# Altium schematic symbol library WR-PHD_Socket Header_2.54mm.SchLib: 187 symbols (part 4 of 4)
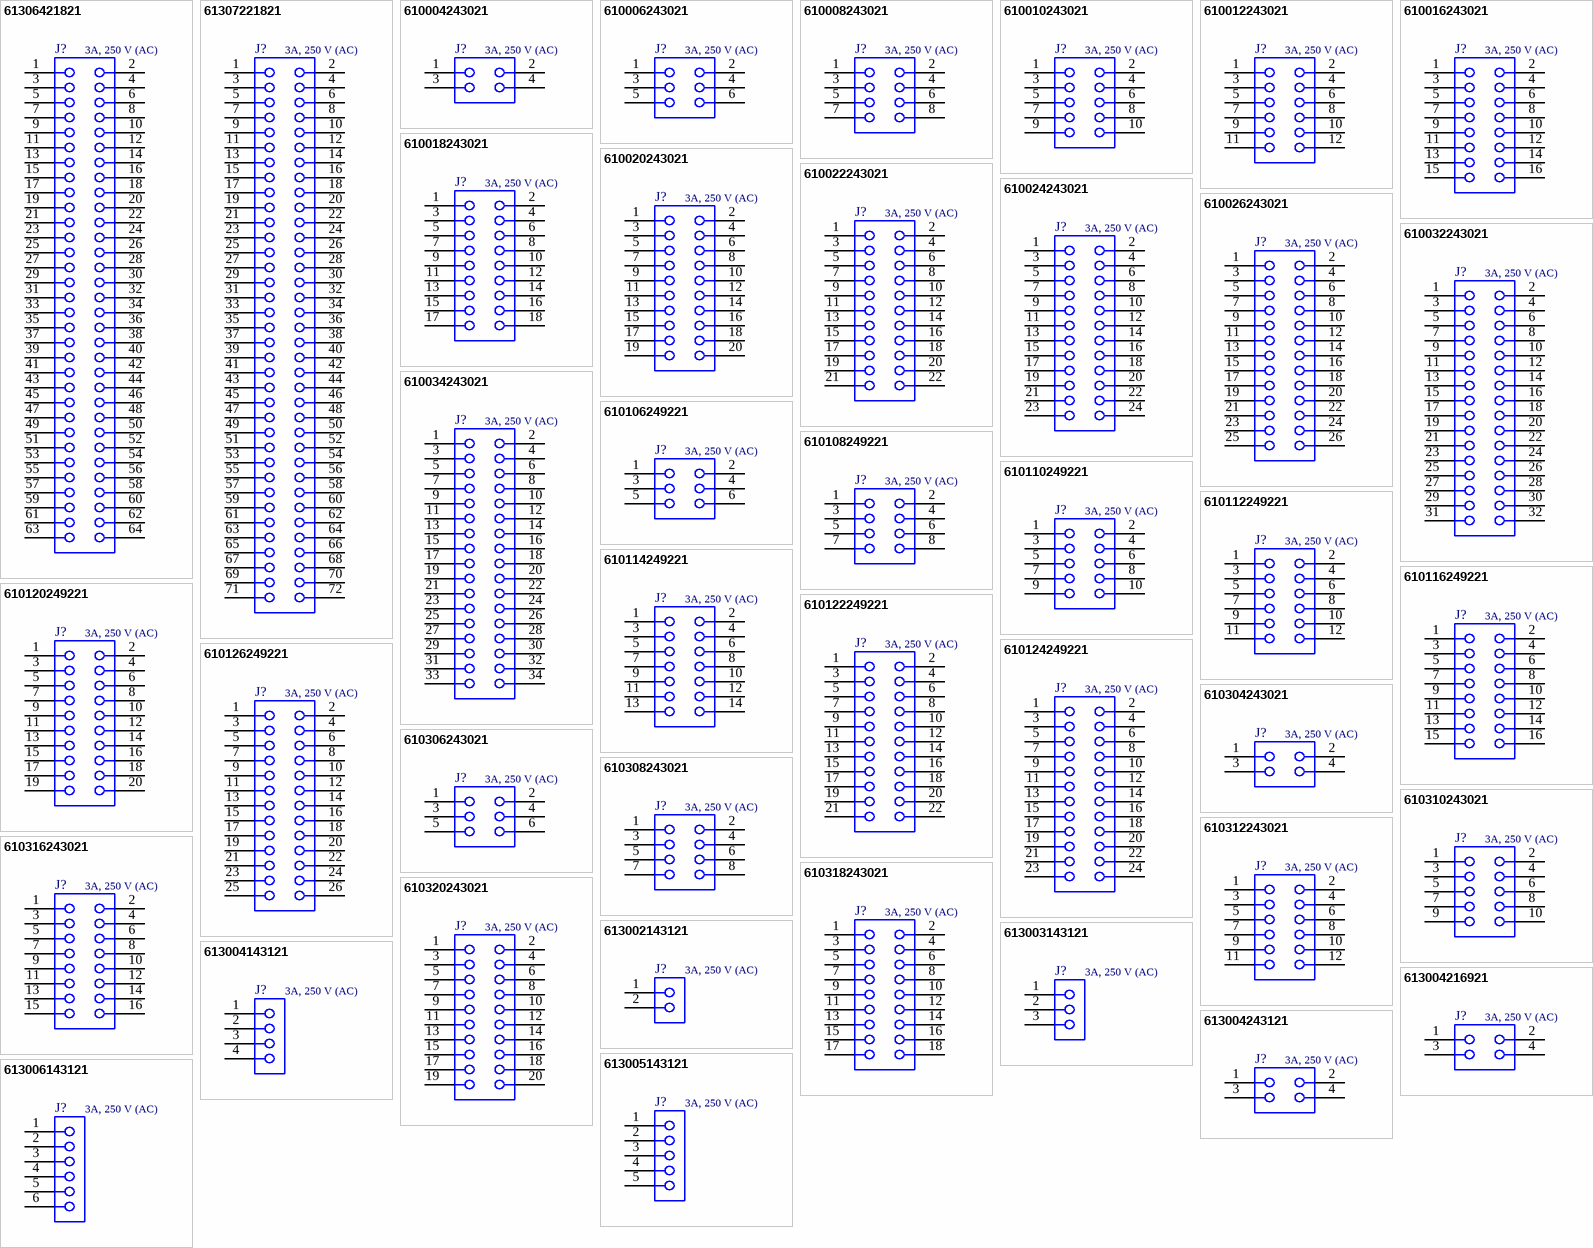
[diagram p8: symbols 61306421821 to 613006143121]

## 613006143121
designator J?, comment 3A, 250 V (AC)
WR-PHD Socket Header, THT, pitch 2.54mm, Single Row, Angled, 6p; Manufacturer Part Number: 613006143121; Manufacturer: Wurth Elektronik; Pin Number: 6; Working Voltage: 250VAC; Withstanding Voltage: 500VAC; Contact Resistance: 20mOhm; ComponentLink1Description: Datasheet; ComponentLink1URL: https://www.we-online.com/catalog/datasheet/613006143121.pdf; Pitch: 2.54mm; Packaging: Tray; Gender: Socket Header; Rated Current: 3A; Row Number: Single; Orientation: Angled; Supplier 1 URL: https://www.mouser.vn/ProductDetail/Wurth-Elektronik/613006143121?qs=iLbezkQI%252BsjEAFO9LmSBxA%3D%3D; Supplier 2 URL: N/A; Supplier 3 URL: https://www.thegioiic.com/hang-rao-cai-don-2-54mm-6-chan-1-hang-chan-cong-xuyen-lo; Mount: THT; Operating Temperature Max: + 85 C; Operating Temperature Min: - 25 C; Supplier 1: Mouser; Supplier 1 Part Number: 710-613006143121; Supplier 2: Digi-Key; Supplier 2 Part Number: N/A; Supplier 3: thegioiic; Supplier 3 Part Number: N/A; Value: 3A, 250 V (AC); LCSC Part #: N/A
footprint 613006143121
pins: 1, 2, 3, 4, 5, 6

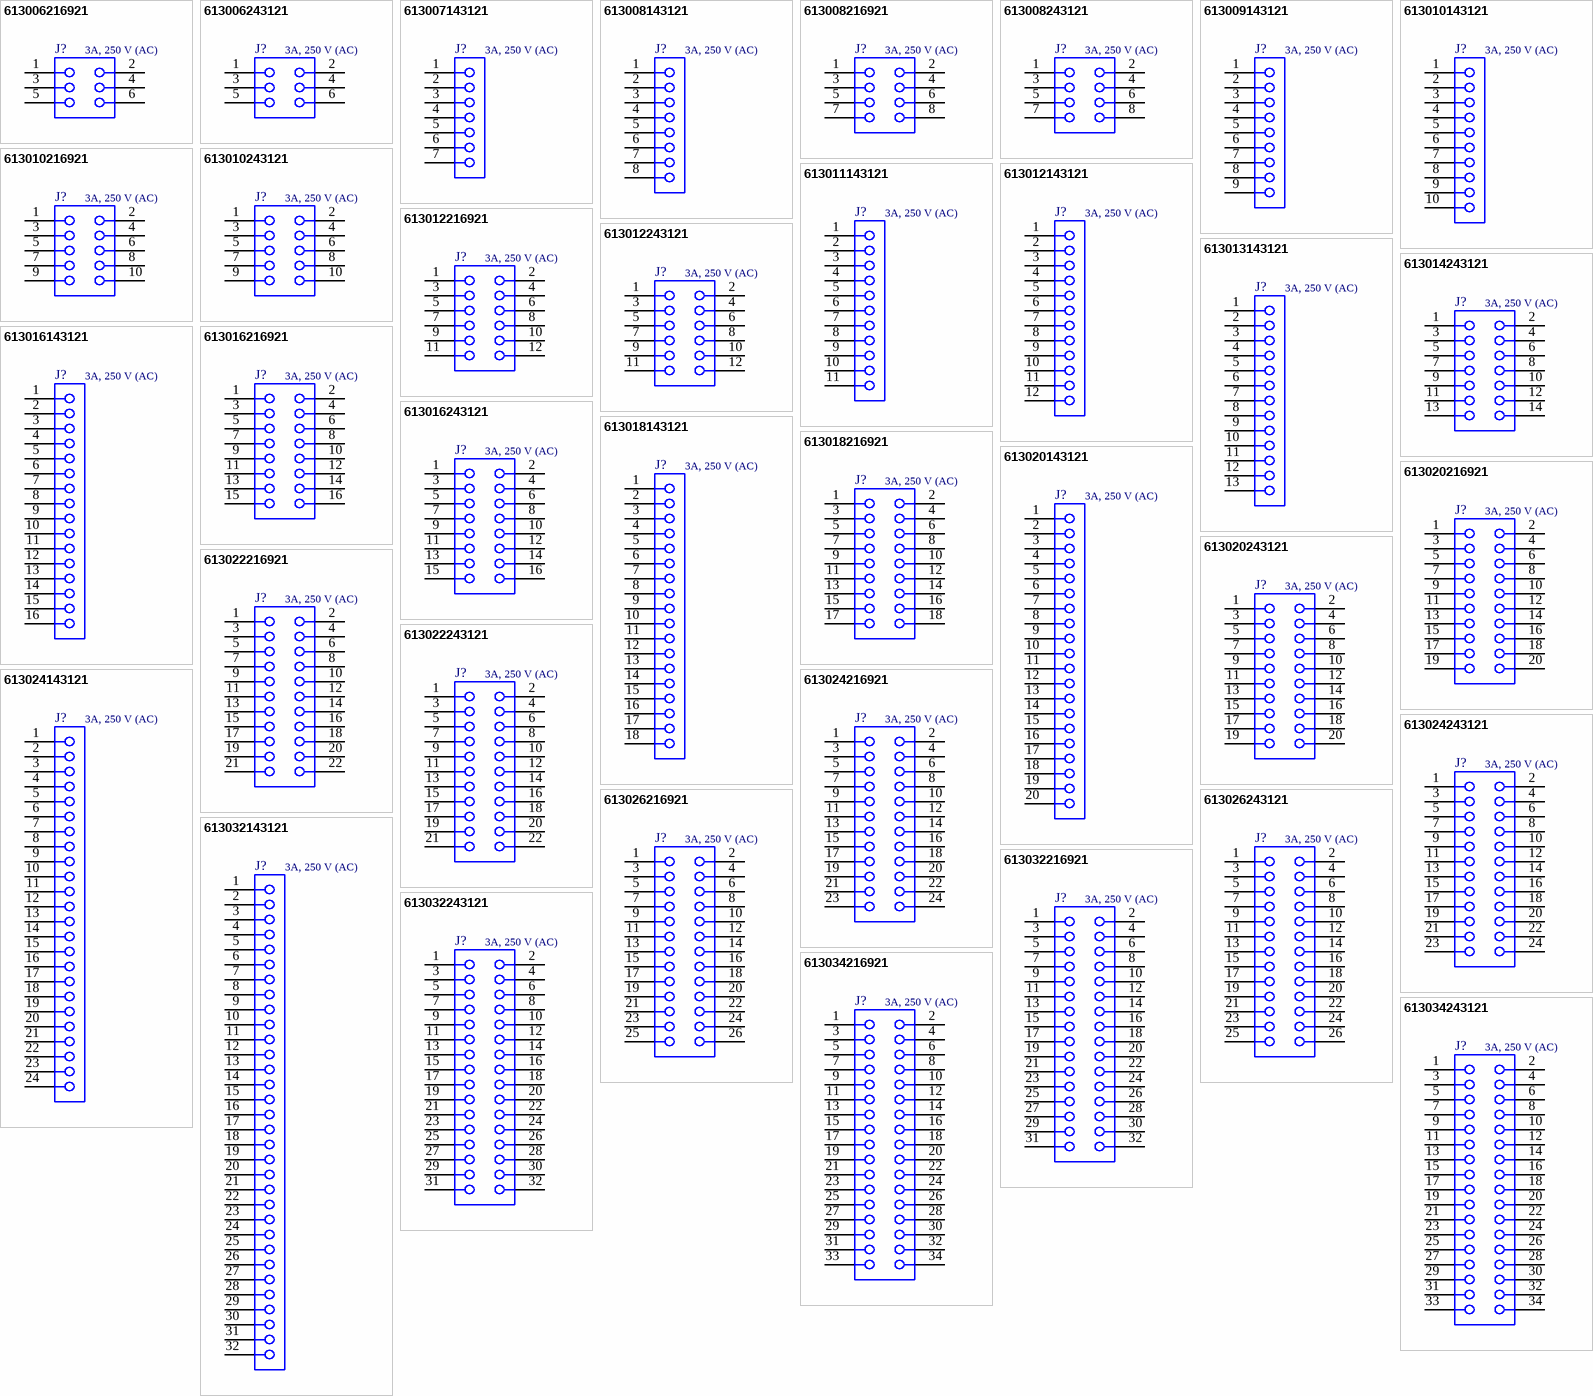
[diagram p4: symbols 613006216921 to 613034243121]

## 613006216921
designator J?, comment 3A, 250 V (AC)
WR-PHD Socket Header, THT, pitch 2.54mm, Dual Row, Vertical, 6p; Manufacturer Part Number: 613006216921; Manufacturer: Wurth Elektronik; Pin Number: 6; Working Voltage: 250VAC; Withstanding Voltage: 500VAC; Contact Resistance: 20mOhm; ComponentLink1Description: Datasheet; ComponentLink1URL: https://www.we-online.com/catalog/datasheet/613006216921.pdf; Pitch: 2.54mm; Packaging: Tube; Gender: Socket Header; Rated Current: 3A; Row Number: Dual; Orientation: Vertical; Supplier 1 URL: N/A; Supplier 2 URL: N/A; Supplier 3 URL: N/A; Mount: THT; Operating Temperature Max: + 85 C; Operating Temperature Min: - 25 C; Supplier 1: Mouser; Supplier 1 Part Number: N/A; Supplier 2: Digi-Key; Supplier 2 Part Number: N/A; Supplier 3: thegioiic; Supplier 3 Part Number: N/A; Value: 3A, 250 V (AC); LCSC Part #: N/A
footprint 613006216921
pins: 1, 2, 3, 4, 5, 6

## 613006243121
designator J?, comment 3A, 250 V (AC)
WR-PHD Socket Header, THT, pitch 2.54mm, Dual Row, Angled, 6p; Manufacturer Part Number: 613006243121; Manufacturer: Wurth Elektronik; Pin Number: 6; Working Voltage: 250VAC; Withstanding Voltage: 500VAC; Contact Resistance: 20mOhm; ComponentLink1Description: Datasheet; ComponentLink1URL: https://www.we-online.com/catalog/datasheet/613006243121.pdf; Pitch: 2.54mm; Packaging: Tray; Gender: Socket Header; Rated Current: 3A; Row Number: Dual; Orientation: Angled; Supplier 1 URL: N/A; Supplier 2 URL: N/A; Supplier 3 URL: https://www.thegioiic.com/hang-rao-cai-doi-2-54mm-6-chan-2-hang-chan-cong-xuyen-lo; Mount: THT; Operating Temperature Max: + 85 C; Operating Temperature Min: - 25 C; Supplier 1: Mouser; Supplier 1 Part Number: N/A; Supplier 2: Digi-Key; Supplier 2 Part Number: N/A; Supplier 3: thegioiic; Supplier 3 Part Number: N/A; Value: 3A, 250 V (AC); LCSC Part #: N/A
footprint 613006243121
pins: 1, 2, 3, 4, 5, 6

## 613007143121
designator J?, comment 3A, 250 V (AC)
WR-PHD Socket Header, THT, pitch 2.54mm, Single Row, Angled, 7p; Manufacturer Part Number: 613007143121; Manufacturer: Wurth Elektronik; Pin Number: 7; Working Voltage: 250VAC; Withstanding Voltage: 500VAC; Contact Resistance: 20mOhm; ComponentLink1Description: Datasheet; ComponentLink1URL: https://www.we-online.com/catalog/datasheet/613007143121.pdf; Pitch: 2.54mm; Packaging: Tray; Gender: Socket Header; Rated Current: 3A; Row Number: Single; Orientation: Angled; Supplier 1 URL: N/A; Supplier 2 URL: N/A; Supplier 3 URL: https://www.thegioiic.com/hang-rao-cai-don-2-54mm-7-chan-1-hang-chan-cong-xuyen-lo; Mount: THT; Operating Temperature Max: + 85 C; Operating Temperature Min: - 25 C; Supplier 1: Mouser; Supplier 1 Part Number: N/A; Supplier 2: Digi-Key; Supplier 2 Part Number: N/A; Supplier 3: thegioiic; Supplier 3 Part Number: N/A; Value: 3A, 250 V (AC); LCSC Part #: N/A
footprint 613007143121
pins: 1, 2, 3, 4, 5, 6, 7

## 613008143121
designator J?, comment 3A, 250 V (AC)
WR-PHD Socket Header, THT, pitch 2.54mm, Single Row, Angled, 8p; Manufacturer Part Number: 613008143121; Manufacturer: Wurth Elektronik; Pin Number: 8; Working Voltage: 250VAC; Withstanding Voltage: 500VAC; Contact Resistance: 20mOhm; ComponentLink1Description: Datasheet; ComponentLink1URL: https://www.we-online.com/catalog/datasheet/613008143121.pdf; Pitch: 2.54mm; Packaging: Tray; Gender: Socket Header; Rated Current: 3A; Row Number: Single; Orientation: Angled; Supplier 1 URL: N/A; Supplier 2 URL: N/A; Supplier 3 URL: https://www.thegioiic.com/hang-rao-cai-don-2-54mm-8-chan-1-hang-chan-cong-xuyen-lo; Mount: THT; Operating Temperature Max: + 85 C; Operating Temperature Min: - 25 C; Supplier 1: Mouser; Supplier 1 Part Number: N/A; Supplier 2: Digi-Key; Supplier 2 Part Number: N/A; Supplier 3: thegioiic; Supplier 3 Part Number: N/A; Value: 3A, 250 V (AC); LCSC Part #: N/A
footprint 613008143121
pins: 1, 2, 3, 4, 5, 6, 7, 8

## 613008216921
designator J?, comment 3A, 250 V (AC)
WR-PHD Socket Header, THT, pitch 2.54mm, Dual Row, Vertical, 8p; Manufacturer Part Number: 613008216921; Manufacturer: Wurth Elektronik; Pin Number: 8; Working Voltage: 250VAC; Withstanding Voltage: 500VAC; Contact Resistance: 20mOhm; ComponentLink1Description: Datasheet; ComponentLink1URL: https://www.we-online.com/catalog/datasheet/613008216921.pdf; Pitch: 2.54mm; Packaging: Tube; Gender: Socket Header; Rated Current: 3A; Row Number: Dual; Orientation: Vertical; Supplier 1 URL: N/A; Supplier 2 URL: N/A; Supplier 3 URL: N/A; Mount: THT; Operating Temperature Max: + 85 C; Operating Temperature Min: - 25 C; Supplier 1: Mouser; Supplier 1 Part Number: N/A; Supplier 2: Digi-Key; Supplier 2 Part Number: N/A; Supplier 3: thegioiic; Supplier 3 Part Number: N/A; Value: 3A, 250 V (AC); LCSC Part #: N/A
footprint 613008216921
pins: 1, 2, 3, 4, 5, 6, 7, 8

## 613008243121
designator J?, comment 3A, 250 V (AC)
WR-PHD Socket Header, THT, pitch 2.54mm, Dual Row, Angled, 8p; Manufacturer Part Number: 613008243121; Manufacturer: Wurth Elektronik; Pin Number: 8; Working Voltage: 250VAC; Withstanding Voltage: 500VAC; Contact Resistance: 20mOhm; ComponentLink1Description: Datasheet; ComponentLink1URL: https://www.we-online.com/catalog/datasheet/613008243121.pdf; Pitch: 2.54mm; Packaging: Tray; Gender: Socket Header; Rated Current: 3A; Row Number: Dual; Orientation: Angled; Supplier 1 URL: https://www.mouser.vn/ProductDetail/Wurth-Elektronik/613008243121?qs=4ASt3YYao0X7Zn9DogtYNQ%3D%3D; Supplier 2 URL: N/A; Supplier 3 URL: https://www.thegioiic.com/hang-rao-cai-doi-2-54mm-8-chan-2-hang-chan-cong-xuyen-lo; Mount: THT; Operating Temperature Max: + 85 C; Operating Temperature Min: - 25 C; Supplier 1: Mouser; Supplier 1 Part Number: 710-613008243121; Supplier 2: Digi-Key; Supplier 2 Part Number: N/A; Supplier 3: thegioiic; Supplier 3 Part Number: N/A; Value: 3A, 250 V (AC); LCSC Part #: N/A
footprint 613008243121
pins: 1, 2, 3, 4, 5, 6, 7, 8

## 613009143121
designator J?, comment 3A, 250 V (AC)
WR-PHD Socket Header, THT, pitch 2.54mm, Single Row, Angled, 9p; Manufacturer Part Number: 613009143121; Manufacturer: Wurth Elektronik; Pin Number: 9; Working Voltage: 250VAC; Withstanding Voltage: 500VAC; Contact Resistance: 20mOhm; ComponentLink1Description: Datasheet; ComponentLink1URL: https://www.we-online.com/catalog/datasheet/613009143121.pdf; Pitch: 2.54mm; Packaging: Tray; Gender: Socket Header; Rated Current: 3A; Row Number: Single; Orientation: Angled; Supplier 1 URL: N/A; Supplier 2 URL: N/A; Supplier 3 URL: https://www.thegioiic.com/hang-rao-cai-don-2-54mm-9-chan-1-hang-chan-cong-xuyen-lo; Mount: THT; Operating Temperature Max: + 85 C; Operating Temperature Min: - 25 C; Supplier 1: Mouser; Supplier 1 Part Number: N/A; Supplier 2: Digi-Key; Supplier 2 Part Number: N/A; Supplier 3: thegioiic; Supplier 3 Part Number: N/A; Value: 3A, 250 V (AC); LCSC Part #: N/A
footprint 613009143121
pins: 1, 2, 3, 4, 5, 6, 7, 8, 9

## 613010143121
designator J?, comment 3A, 250 V (AC)
WR-PHD Socket Header, THT, pitch 2.54mm, Single Row, Angled, 10p; Manufacturer Part Number: 613010143121; Manufacturer: Wurth Elektronik; Pin Number: 10; Working Voltage: 250VAC; Withstanding Voltage: 500VAC; Contact Resistance: 20mOhm; ComponentLink1Description: Datasheet; ComponentLink1URL: https://www.we-online.com/catalog/datasheet/613010143121.pdf; Pitch: 2.54mm; Packaging: Tray; Gender: Socket Header; Rated Current: 3A; Row Number: Single; Orientation: Angled; Supplier 1 URL: https://www.mouser.vn/ProductDetail/Wurth-Elektronik/613010143121?qs=ZtY9WdtwX57y7MI3S9roUA%3D%3D; Supplier 2 URL: N/A; Supplier 3 URL: https://www.thegioiic.com/hang-rao-cai-don-2-54mm-10-chan-1-hang-chan-cong-xuyen-lo; Mount: THT; Operating Temperature Max: + 85 C; Operating Temperature Min: - 25 C; Supplier 1: Mouser; Supplier 1 Part Number: 710-613010143121; Supplier 2: Digi-Key; Supplier 2 Part Number: N/A; Supplier 3: thegioiic; Supplier 3 Part Number: N/A; Value: 3A, 250 V (AC); LCSC Part #: N/A
footprint 613010143121
pins: 1, 2, 3, 4, 5, 6, 7, 8, 9, 10

## 613010216921
designator J?, comment 3A, 250 V (AC)
WR-PHD Socket Header, THT, pitch 2.54mm, Dual Row, Vertical, 10p; Manufacturer Part Number: 613010216921; Manufacturer: Wurth Elektronik; Pin Number: 10; Working Voltage: 250VAC; Withstanding Voltage: 500VAC; Contact Resistance: 20mOhm; ComponentLink1Description: Datasheet; ComponentLink1URL: https://www.we-online.com/catalog/datasheet/613010216921.pdf; Pitch: 2.54mm; Packaging: Tube; Gender: Socket Header; Rated Current: 3A; Row Number: Dual; Orientation: Vertical; Supplier 1 URL: N/A; Supplier 2 URL: N/A; Supplier 3 URL: N/A; Mount: THT; Operating Temperature Max: + 85 C; Operating Temperature Min: - 25 C; Supplier 1: Mouser; Supplier 1 Part Number: N/A; Supplier 2: Digi-Key; Supplier 2 Part Number: N/A; Supplier 3: thegioiic; Supplier 3 Part Number: N/A; Value: 3A, 250 V (AC); LCSC Part #: N/A
footprint 613010216921
pins: 1, 2, 3, 4, 5, 6, 7, 8, 9, 10

## 613010243121
designator J?, comment 3A, 250 V (AC)
WR-PHD Socket Header, THT, pitch 2.54mm, Dual Row, Angled, 10p; Manufacturer Part Number: 613010243121; Manufacturer: Wurth Elektronik; Pin Number: 10; Working Voltage: 250VAC; Withstanding Voltage: 500VAC; Contact Resistance: 20mOhm; ComponentLink1Description: Datasheet; ComponentLink1URL: https://www.we-online.com/catalog/datasheet/613010243121.pdf; Pitch: 2.54mm; Packaging: Tray; Gender: Socket Header; Rated Current: 3A; Row Number: Dual; Orientation: Angled; Supplier 1 URL: https://www.mouser.vn/ProductDetail/Wurth-Elektronik/613010243121?qs=ZtY9WdtwX54mDpZwGjr8IA%3D%3D; Supplier 2 URL: N/A; Supplier 3 URL: https://www.thegioiic.com/hang-rao-cai-doi-2-54mm-10-chan-2-hang-chan-cong-xuyen-lo; Mount: THT; Operating Temperature Max: + 85 C; Operating Temperature Min: - 25 C; Supplier 1: Mouser; Supplier 1 Part Number: 710-613010243121; Supplier 2: Digi-Key; Supplier 2 Part Number: N/A; Supplier 3: thegioiic; Supplier 3 Part Number: N/A; Value: 3A, 250 V (AC); LCSC Part #: N/A
footprint 613010243121
pins: 1, 2, 3, 4, 5, 6, 7, 8, 9, 10

## 613011143121
designator J?, comment 3A, 250 V (AC)
WR-PHD Socket Header, THT, pitch 2.54mm, Single Row, Angled, 11p; Manufacturer Part Number: 613011143121; Manufacturer: Wurth Elektronik; Pin Number: 11; Working Voltage: 250VAC; Withstanding Voltage: 500VAC; Contact Resistance: 20mOhm; ComponentLink1Description: Datasheet; ComponentLink1URL: https://www.we-online.com/catalog/datasheet/613011143121.pdf; Pitch: 2.54mm; Packaging: Tray; Gender: Socket Header; Rated Current: 3A; Row Number: Single; Orientation: Angled; Supplier 1 URL: N/A; Supplier 2 URL: N/A; Supplier 3 URL: N/A; Mount: THT; Operating Temperature Max: + 85 C; Operating Temperature Min: - 25 C; Supplier 1: Mouser; Supplier 1 Part Number: N/A; Supplier 2: Digi-Key; Supplier 2 Part Number: N/A; Supplier 3: thegioiic; Supplier 3 Part Number: N/A; Value: 3A, 250 V (AC); LCSC Part #: N/A
footprint 613011143121
pins: 1, 2, 3, 4, 5, 6, 7, 8, 9, 10, 11

## 613012143121
designator J?, comment 3A, 250 V (AC)
WR-PHD Socket Header, THT, pitch 2.54mm, Single Row, Angled, 12p; Manufacturer Part Number: 613012143121; Manufacturer: Wurth Elektronik; Pin Number: 12; Working Voltage: 250VAC; Withstanding Voltage: 500VAC; Contact Resistance: 20mOhm; ComponentLink1Description: Datasheet; ComponentLink1URL: https://www.we-online.com/catalog/datasheet/613012143121.pdf; Pitch: 2.54mm; Packaging: Tray; Gender: Socket Header; Rated Current: 3A; Row Number: Single; Orientation: Angled; Supplier 1 URL: N/A; Supplier 2 URL: N/A; Supplier 3 URL: https://www.thegioiic.com/hang-rao-cai-don-2-54mm-12-chan-1-hang-chan-cong-xuyen-lo; Mount: THT; Operating Temperature Max: + 85 C; Operating Temperature Min: - 25 C; Supplier 1: Mouser; Supplier 1 Part Number: N/A; Supplier 2: Digi-Key; Supplier 2 Part Number: N/A; Supplier 3: thegioiic; Supplier 3 Part Number: N/A; Value: 3A, 250 V (AC); LCSC Part #: N/A
footprint 613012143121
pins: 1, 2, 3, 4, 5, 6, 7, 8, 9, 10, 11, 12

## 613012216921
designator J?, comment 3A, 250 V (AC)
WR-PHD Socket Header, THT, pitch 2.54mm, Dual Row, Vertical, 12p; Manufacturer Part Number: 613012216921; Manufacturer: Wurth Elektronik; Pin Number: 12; Working Voltage: 250VAC; Withstanding Voltage: 500VAC; Contact Resistance: 20mOhm; ComponentLink1Description: Datasheet; ComponentLink1URL: https://www.we-online.com/catalog/datasheet/613012216921.pdf; Pitch: 2.54mm; Packaging: Tube; Gender: Socket Header; Rated Current: 3A; Row Number: Dual; Orientation: Vertical; Supplier 1 URL: N/A; Supplier 2 URL: N/A; Supplier 3 URL: N/A; Mount: THT; Operating Temperature Max: + 85 C; Operating Temperature Min: - 25 C; Supplier 1: Mouser; Supplier 1 Part Number: N/A; Supplier 2: Digi-Key; Supplier 2 Part Number: N/A; Supplier 3: thegioiic; Supplier 3 Part Number: N/A; Value: 3A, 250 V (AC); LCSC Part #: N/A
footprint 613012216921
pins: 1, 2, 3, 4, 5, 6, 7, 8, 9, 10, 11, 12

## 613012243121
designator J?, comment 3A, 250 V (AC)
WR-PHD Socket Header, THT, pitch 2.54mm, Dual Row, Angled, 12p; Manufacturer Part Number: 613012243121; Manufacturer: Wurth Elektronik; Pin Number: 12; Working Voltage: 250VAC; Withstanding Voltage: 500VAC; Contact Resistance: 20mOhm; ComponentLink1Description: Datasheet; ComponentLink1URL: https://www.we-online.com/catalog/datasheet/613012243121.pdf; Pitch: 2.54mm; Packaging: Tray; Gender: Socket Header; Rated Current: 3A; Row Number: Dual; Orientation: Angled; Supplier 1 URL: https://www.mouser.vn/ProductDetail/Wurth-Elektronik/613010243121?qs=ZtY9WdtwX54mDpZwGjr8IA%3D%3D; Supplier 2 URL: N/A; Supplier 3 URL: https://www.thegioiic.com/hang-rao-cai-doi-2-54mm-12-chan-2-hang-chan-cong-xuyen-lo; Mount: THT; Operating Temperature Max: + 85 C; Operating Temperature Min: - 25 C; Supplier 1: Mouser; Supplier 1 Part Number: 710-613010243121; Supplier 2: Digi-Key; Supplier 2 Part Number: N/A; Supplier 3: thegioiic; Supplier 3 Part Number: N/A; Value: 3A, 250 V (AC); LCSC Part #: N/A
footprint 613012243121
pins: 1, 2, 3, 4, 5, 6, 7, 8, 9, 10, 11, 12

## 613013143121
designator J?, comment 3A, 250 V (AC)
WR-PHD Socket Header, THT, pitch 2.54mm, Single Row, Angled, 13p; Manufacturer Part Number: 613013143121; Manufacturer: Wurth Elektronik; Pin Number: 13; Working Voltage: 250VAC; Withstanding Voltage: 500VAC; Contact Resistance: 20mOhm; ComponentLink1Description: Datasheet; ComponentLink1URL: https://www.we-online.com/catalog/datasheet/613013143121.pdf; Pitch: 2.54mm; Packaging: Tray; Gender: Socket Header; Rated Current: 3A; Row Number: Single; Orientation: Angled; Supplier 1 URL: N/A; Supplier 2 URL: N/A; Supplier 3 URL: N/A; Mount: THT; Operating Temperature Max: + 85 C; Operating Temperature Min: - 25 C; Supplier 1: Mouser; Supplier 1 Part Number: N/A; Supplier 2: Digi-Key; Supplier 2 Part Number: N/A; Supplier 3: thegioiic; Supplier 3 Part Number: N/A; Value: 3A, 250 V (AC); LCSC Part #: N/A
footprint 613013143121
pins: 1, 2, 3, 4, 5, 6, 7, 8, 9, 10, 11, 12, 13

## 613014243121
designator J?, comment 3A, 250 V (AC)
WR-PHD Socket Header, THT, pitch 2.54mm, Dual Row, Angled, 14p; Manufacturer Part Number: 613014243121; Manufacturer: Wurth Elektronik; Pin Number: 14; Working Voltage: 250VAC; Withstanding Voltage: 500VAC; Contact Resistance: 20mOhm; ComponentLink1Description: Datasheet; ComponentLink1URL: https://www.we-online.com/catalog/datasheet/613014243121.pdf; Pitch: 2.54mm; Packaging: Tray; Gender: Socket Header; Rated Current: 3A; Row Number: Dual; Orientation: Angled; Supplier 1 URL: N/A; Supplier 2 URL: N/A; Supplier 3 URL: https://www.thegioiic.com/hang-rao-cai-doi-2-54mm-14-chan-2-hang-chan-cong-xuyen-lo; Mount: THT; Operating Temperature Max: + 85 C; Operating Temperature Min: - 25 C; Supplier 1: Mouser; Supplier 1 Part Number: N/A; Supplier 2: Digi-Key; Supplier 2 Part Number: N/A; Supplier 3: thegioiic; Supplier 3 Part Number: N/A; Value: 3A, 250 V (AC); LCSC Part #: N/A
footprint 613014243121
pins: 1, 2, 3, 4, 5, 6, 7, 8, 9, 10, 11, 12, 13, 14

## 613016143121
designator J?, comment 3A, 250 V (AC)
WR-PHD Socket Header, THT, pitch 2.54mm, Single Row, Angled, 16p; Manufacturer Part Number: 613016143121; Manufacturer: Wurth Elektronik; Pin Number: 16; Working Voltage: 250VAC; Withstanding Voltage: 500VAC; Contact Resistance: 20mOhm; ComponentLink1Description: Datasheet; ComponentLink1URL: https://www.we-online.com/catalog/datasheet/613016143121.pdf; Pitch: 2.54mm; Packaging: Tray; Gender: Socket Header; Rated Current: 3A; Row Number: Single; Orientation: Angled; Supplier 1 URL: N/A; Supplier 2 URL: N/A; Supplier 3 URL: N/A; Mount: THT; Operating Temperature Max: + 85 C; Operating Temperature Min: - 25 C; Supplier 1: Mouser; Supplier 1 Part Number: N/A; Supplier 2: Digi-Key; Supplier 2 Part Number: N/A; Supplier 3: thegioiic; Supplier 3 Part Number: N/A; Value: 3A, 250 V (AC); LCSC Part #: N/A
footprint 613016143121
pins: 1, 2, 3, 4, 5, 6, 7, 8, 9, 10, 11, 12, 13, 14, 15, 16

## 613016216921
designator J?, comment 3A, 250 V (AC)
WR-PHD Socket Header, THT, pitch 2.54mm, Dual Row, Vertical, 16p; Manufacturer Part Number: 613016216921; Manufacturer: Wurth Elektronik; Pin Number: 16; Working Voltage: 250VAC; Withstanding Voltage: 500VAC; Contact Resistance: 20mOhm; ComponentLink1Description: Datasheet; ComponentLink1URL: https://www.we-online.com/catalog/datasheet/613016216921.pdf; Pitch: 2.54mm; Packaging: Tube; Gender: Socket Header; Rated Current: 3A; Row Number: Dual; Orientation: Vertical; Supplier 1 URL: N/A; Supplier 2 URL: N/A; Supplier 3 URL: N/A; Mount: THT; Operating Temperature Max: + 85 C; Operating Temperature Min: - 25 C; Supplier 1: Mouser; Supplier 1 Part Number: N/A; Supplier 2: Digi-Key; Supplier 2 Part Number: N/A; Supplier 3: thegioiic; Supplier 3 Part Number: N/A; Value: 3A, 250 V (AC); LCSC Part #: N/A
footprint 613016216921
pins: 1, 2, 3, 4, 5, 6, 7, 8, 9, 10, 11, 12, 13, 14, 15, 16

## 613016243121
designator J?, comment 3A, 250 V (AC)
WR-PHD Socket Header, THT, pitch 2.54mm, Dual Row, Angled, 16p; Manufacturer Part Number: 613016243121; Manufacturer: Wurth Elektronik; Pin Number: 16; Working Voltage: 250VAC; Withstanding Voltage: 500VAC; Contact Resistance: 20mOhm; ComponentLink1Description: Datasheet; ComponentLink1URL: https://www.we-online.com/catalog/datasheet/613016243121.pdf; Pitch: 2.54mm; Packaging: Tray; Gender: Socket Header; Rated Current: 3A; Row Number: Dual; Orientation: Angled; Supplier 1 URL: N/A; Supplier 2 URL: N/A; Supplier 3 URL: https://www.thegioiic.com/hang-rao-cai-doi-2-54mm-16-chan-2-hang-chan-cong-xuyen-lo; Mount: THT; Operating Temperature Max: + 85 C; Operating Temperature Min: - 25 C; Supplier 1: Mouser; Supplier 1 Part Number: N/A; Supplier 2: Digi-Key; Supplier 2 Part Number: N/A; Supplier 3: thegioiic; Supplier 3 Part Number: N/A; Value: 3A, 250 V (AC); LCSC Part #: N/A
footprint 613016243121
pins: 1, 2, 3, 4, 5, 6, 7, 8, 9, 10, 11, 12, 13, 14, 15, 16

## 613018143121
designator J?, comment 3A, 250 V (AC)
WR-PHD Socket Header, THT, pitch 2.54mm, Single Row, Angled, 18p; Manufacturer Part Number: 613018143121; Manufacturer: Wurth Elektronik; Pin Number: 18; Working Voltage: 250VAC; Withstanding Voltage: 500VAC; Contact Resistance: 20mOhm; ComponentLink1Description: Datasheet; ComponentLink1URL: https://www.we-online.com/catalog/datasheet/613018143121.pdf; Pitch: 2.54mm; Packaging: Tray; Gender: Socket Header; Rated Current: 3A; Row Number: Single; Orientation: Angled; Supplier 1 URL: N/A; Supplier 2 URL: N/A; Supplier 3 URL: N/A; Mount: THT; Operating Temperature Max: + 85 C; Operating Temperature Min: - 25 C; Supplier 1: Mouser; Supplier 1 Part Number: N/A; Supplier 2: Digi-Key; Supplier 2 Part Number: N/A; Supplier 3: thegioiic; Supplier 3 Part Number: N/A; Value: 3A, 250 V (AC); LCSC Part #: N/A
footprint 613018143121
pins: 1, 2, 3, 4, 5, 6, 7, 8, 9, 10, 11, 12, 13, 14, 15, 16, 17, 18

## 613018216921
designator J?, comment 3A, 250 V (AC)
WR-PHD Socket Header, THT, pitch 2.54mm, Dual Row, Vertical, 18p; Manufacturer Part Number: 613018216921; Manufacturer: Wurth Elektronik; Pin Number: 18; Working Voltage: 250VAC; Withstanding Voltage: 500VAC; Contact Resistance: 20mOhm; ComponentLink1Description: Datasheet; ComponentLink1URL: https://www.we-online.com/catalog/datasheet/613018216921.pdf; Pitch: 2.54mm; Packaging: Tube; Gender: Socket Header; Rated Current: 3A; Row Number: Dual; Orientation: Vertical; Supplier 1 URL: N/A; Supplier 2 URL: N/A; Supplier 3 URL: N/A; Mount: THT; Operating Temperature Max: + 85 C; Operating Temperature Min: - 25 C; Supplier 1: Mouser; Supplier 1 Part Number: N/A; Supplier 2: Digi-Key; Supplier 2 Part Number: N/A; Supplier 3: thegioiic; Supplier 3 Part Number: N/A; Value: 3A, 250 V (AC); LCSC Part #: N/A
footprint 613018216921
pins: 1, 2, 3, 4, 5, 6, 7, 8, 9, 10, 11, 12, 13, 14, 15, 16, 17, 18

## 613020143121
designator J?, comment 3A, 250 V (AC)
WR-PHD Socket Header, THT, pitch 2.54mm, Single Row, Angled, 20p; Manufacturer Part Number: 613020143121; Manufacturer: Wurth Elektronik; Pin Number: 20; Working Voltage: 250VAC; Withstanding Voltage: 500VAC; Contact Resistance: 20mOhm; ComponentLink1Description: Datasheet; ComponentLink1URL: https://www.we-online.com/catalog/datasheet/613020143121.pdf; Pitch: 2.54mm; Packaging: Tray; Gender: Socket Header; Rated Current: 3A; Row Number: Single; Orientation: Angled; Supplier 1 URL: N/A; Supplier 2 URL: N/A; Supplier 3 URL: https://www.thegioiic.com/hang-rao-cai-don-2-54mm-20-chan-1-hang-chan-cong-xuyen-lo; Mount: THT; Operating Temperature Max: + 85 C; Operating Temperature Min: - 25 C; Supplier 1: Mouser; Supplier 1 Part Number: N/A; Supplier 2: Digi-Key; Supplier 2 Part Number: N/A; Supplier 3: thegioiic; Supplier 3 Part Number: N/A; Value: 3A, 250 V (AC); LCSC Part #: N/A
footprint 613020143121
pins: 1, 2, 3, 4, 5, 6, 7, 8, 9, 10, 11, 12, 13, 14, 15, 16, 17, 18, 19, 20

## 613020216921
designator J?, comment 3A, 250 V (AC)
WR-PHD Socket Header, THT, pitch 2.54mm, Dual Row, Vertical, 20p; Manufacturer Part Number: 613020216921; Manufacturer: Wurth Elektronik; Pin Number: 20; Working Voltage: 250VAC; Withstanding Voltage: 500VAC; Contact Resistance: 20mOhm; ComponentLink1Description: Datasheet; ComponentLink1URL: https://www.we-online.com/catalog/datasheet/613020216921.pdf; Pitch: 2.54mm; Packaging: Tube; Gender: Socket Header; Rated Current: 3A; Row Number: Dual; Orientation: Vertical; Supplier 1 URL: N/A; Supplier 2 URL: N/A; Supplier 3 URL: N/A; Mount: THT; Operating Temperature Max: + 85 C; Operating Temperature Min: - 25 C; Supplier 1: Mouser; Supplier 1 Part Number: N/A; Supplier 2: Digi-Key; Supplier 2 Part Number: N/A; Supplier 3: thegioiic; Supplier 3 Part Number: N/A; Value: 3A, 250 V (AC); LCSC Part #: N/A
footprint 613020216921
pins: 1, 2, 3, 4, 5, 6, 7, 8, 9, 10, 11, 12, 13, 14, 15, 16, 17, 18, 19, 20

## 613020243121
designator J?, comment 3A, 250 V (AC)
WR-PHD Socket Header, THT, pitch 2.54mm, Dual Row, Angled, 20p; Manufacturer Part Number: 613020243121; Manufacturer: Wurth Elektronik; Pin Number: 20; Working Voltage: 250VAC; Withstanding Voltage: 500VAC; Contact Resistance: 20mOhm; ComponentLink1Description: Datasheet; ComponentLink1URL: https://www.we-online.com/catalog/datasheet/613020243121.pdf; Pitch: 2.54mm; Packaging: Tray; Gender: Socket Header; Rated Current: 3A; Row Number: Dual; Orientation: Angled; Supplier 1 URL: https://www.mouser.vn/ProductDetail/Wurth-Elektronik/613020243121?qs=iLbezkQI%252BsgYJAYDyV6%2Fyw%3D%3D; Supplier 2 URL: N/A; Supplier 3 URL: https://www.thegioiic.com/hang-rao-cai-doi-2-54mm-20-chan-2-hang-chan-cong-xuyen-lo; Mount: THT; Operating Temperature Max: + 85 C; Operating Temperature Min: - 25 C; Supplier 1: Mouser; Supplier 1 Part Number: 710-613020243121; Supplier 2: Digi-Key; Supplier 2 Part Number: N/A; Supplier 3: thegioiic; Supplier 3 Part Number: N/A; Value: 3A, 250 V (AC); LCSC Part #: N/A
footprint 613020243121
pins: 1, 2, 3, 4, 5, 6, 7, 8, 9, 10, 11, 12, 13, 14, 15, 16, 17, 18, 19, 20

## 613022216921
designator J?, comment 3A, 250 V (AC)
WR-PHD Socket Header, THT, pitch 2.54mm, Dual Row, Vertical, 22p; Manufacturer Part Number: 613022216921; Manufacturer: Wurth Elektronik; Pin Number: 22; Working Voltage: 250VAC; Withstanding Voltage: 500VAC; Contact Resistance: 20mOhm; ComponentLink1Description: Datasheet; ComponentLink1URL: https://www.we-online.com/catalog/datasheet/613022216921.pdf; Pitch: 2.54mm; Packaging: Tube; Gender: Socket Header; Rated Current: 3A; Row Number: Dual; Orientation: Vertical; Supplier 1 URL: N/A; Supplier 2 URL: N/A; Supplier 3 URL: N/A; Mount: THT; Operating Temperature Max: + 85 C; Operating Temperature Min: - 25 C; Supplier 1: Mouser; Supplier 1 Part Number: N/A; Supplier 2: Digi-Key; Supplier 2 Part Number: N/A; Supplier 3: thegioiic; Supplier 3 Part Number: N/A; Value: 3A, 250 V (AC); LCSC Part #: N/A
footprint 613022216921
pins: 1, 2, 3, 4, 5, 6, 7, 8, 9, 10, 11, 12, 13, 14, 15, 16, 17, 18, 19, 20, 21, 22

## 613022243121
designator J?, comment 3A, 250 V (AC)
WR-PHD Socket Header, THT, pitch 2.54mm, Dual Row, Angled, 22p; Manufacturer Part Number: 613022243121; Manufacturer: Wurth Elektronik; Pin Number: 22; Working Voltage: 250VAC; Withstanding Voltage: 500VAC; Contact Resistance: 20mOhm; ComponentLink1Description: Datasheet; ComponentLink1URL: https://www.we-online.com/catalog/datasheet/613022243121.pdf; Pitch: 2.54mm; Packaging: Tray; Gender: Socket Header; Rated Current: 3A; Row Number: Dual; Orientation: Angled; Supplier 1 URL: N/A; Supplier 2 URL: N/A; Supplier 3 URL: N/A; Mount: THT; Operating Temperature Max: + 85 C; Operating Temperature Min: - 25 C; Supplier 1: Mouser; Supplier 1 Part Number: N/A; Supplier 2: Digi-Key; Supplier 2 Part Number: N/A; Supplier 3: thegioiic; Supplier 3 Part Number: N/A; Value: 3A, 250 V (AC); LCSC Part #: N/A
footprint 613022243121
pins: 1, 2, 3, 4, 5, 6, 7, 8, 9, 10, 11, 12, 13, 14, 15, 16, 17, 18, 19, 20, 21, 22

## 613024143121
designator J?, comment 3A, 250 V (AC)
WR-PHD Socket Header, THT, pitch 2.54mm, Single Row, Angled, 24p; Manufacturer Part Number: 613024143121; Manufacturer: Wurth Elektronik; Pin Number: 24; Working Voltage: 250VAC; Withstanding Voltage: 500VAC; Contact Resistance: 20mOhm; ComponentLink1Description: Datasheet; ComponentLink1URL: https://www.we-online.com/catalog/datasheet/613024143121.pdf; Pitch: 2.54mm; Packaging: Tray; Gender: Socket Header; Rated Current: 3A; Row Number: Single; Orientation: Angled; Supplier 1 URL: N/A; Supplier 2 URL: N/A; Supplier 3 URL: N/A; Mount: THT; Operating Temperature Max: + 85 C; Operating Temperature Min: - 25 C; Supplier 1: Mouser; Supplier 1 Part Number: N/A; Supplier 2: Digi-Key; Supplier 2 Part Number: N/A; Supplier 3: thegioiic; Supplier 3 Part Number: N/A; Value: 3A, 250 V (AC); LCSC Part #: N/A
footprint 613024143121
pins: 1, 2, 3, 4, 5, 6, 7, 8, 9, 10, 11, 12, 13, 14, 15, 16, 17, 18, 19, 20, 21, 22, 23, 24

## 613024216921
designator J?, comment 3A, 250 V (AC)
WR-PHD Socket Header, THT, pitch 2.54mm, Dual Row, Vertical, 24p; Manufacturer Part Number: 613024216921; Manufacturer: Wurth Elektronik; Pin Number: 24; Working Voltage: 250VAC; Withstanding Voltage: 500VAC; Contact Resistance: 20mOhm; ComponentLink1Description: Datasheet; ComponentLink1URL: https://www.we-online.com/catalog/datasheet/613024216921.pdf; Pitch: 2.54mm; Packaging: Tube; Gender: Socket Header; Rated Current: 3A; Row Number: Dual; Orientation: Vertical; Supplier 1 URL: N/A; Supplier 2 URL: N/A; Supplier 3 URL: N/A; Mount: THT; Operating Temperature Max: + 85 C; Operating Temperature Min: - 25 C; Supplier 1: Mouser; Supplier 1 Part Number: N/A; Supplier 2: Digi-Key; Supplier 2 Part Number: N/A; Supplier 3: thegioiic; Supplier 3 Part Number: N/A; Value: 3A, 250 V (AC); LCSC Part #: N/A
footprint 613024216921
pins: 1, 2, 3, 4, 5, 6, 7, 8, 9, 10, 11, 12, 13, 14, 15, 16, 17, 18, 19, 20, 21, 22, 23, 24

## 613024243121
designator J?, comment 3A, 250 V (AC)
WR-PHD Socket Header, THT, pitch 2.54mm, Dual Row, Angled, 24p; Manufacturer Part Number: 613024243121; Manufacturer: Wurth Elektronik; Pin Number: 24; Working Voltage: 250VAC; Withstanding Voltage: 500VAC; Contact Resistance: 20mOhm; ComponentLink1Description: Datasheet; ComponentLink1URL: https://www.we-online.com/catalog/datasheet/613024243121.pdf; Pitch: 2.54mm; Packaging: Tray; Gender: Socket Header; Rated Current: 3A; Row Number: Dual; Orientation: Angled; Supplier 1 URL: N/A; Supplier 2 URL: N/A; Supplier 3 URL: https://www.thegioiic.com/hang-rao-cai-doi-2-54mm-24-chan-2-hang-chan-cong-xuyen-lo; Mount: THT; Operating Temperature Max: + 85 C; Operating Temperature Min: - 25 C; Supplier 1: Mouser; Supplier 1 Part Number: N/A; Supplier 2: Digi-Key; Supplier 2 Part Number: N/A; Supplier 3: thegioiic; Supplier 3 Part Number: N/A; Value: 3A, 250 V (AC); LCSC Part #: N/A
footprint 613024243121
pins: 1, 2, 3, 4, 5, 6, 7, 8, 9, 10, 11, 12, 13, 14, 15, 16, 17, 18, 19, 20, 21, 22, 23, 24

## 613026216921
designator J?, comment 3A, 250 V (AC)
WR-PHD Socket Header, THT, pitch 2.54mm, Dual Row, Vertical, 26p; Manufacturer Part Number: 613026216921; Manufacturer: Wurth Elektronik; Pin Number: 26; Working Voltage: 250VAC; Withstanding Voltage: 500VAC; Contact Resistance: 20mOhm; ComponentLink1Description: Datasheet; ComponentLink1URL: https://www.we-online.com/catalog/datasheet/613026216921.pdf; Pitch: 2.54mm; Packaging: Tube; Gender: Socket Header; Rated Current: 3A; Row Number: Dual; Orientation: Vertical; Supplier 1 URL: N/A; Supplier 2 URL: N/A; Supplier 3 URL: N/A; Mount: THT; Operating Temperature Max: + 85 C; Operating Temperature Min: - 25 C; Supplier 1: Mouser; Supplier 1 Part Number: N/A; Supplier 2: Digi-Key; Supplier 2 Part Number: N/A; Supplier 3: thegioiic; Supplier 3 Part Number: N/A; Value: 3A, 250 V (AC); LCSC Part #: N/A
footprint 613026216921
pins: 1, 2, 3, 4, 5, 6, 7, 8, 9, 10, 11, 12, 13, 14, 15, 16, 17, 18, 19, 20, 21, 22, 23, 24, 25, 26

## 613026243121
designator J?, comment 3A, 250 V (AC)
WR-PHD Socket Header, THT, pitch 2.54mm, Dual Row, Angled, 26p; Manufacturer Part Number: 613026243121; Manufacturer: Wurth Elektronik; Pin Number: 26; Working Voltage: 250VAC; Withstanding Voltage: 500VAC; Contact Resistance: 20mOhm; ComponentLink1Description: Datasheet; ComponentLink1URL: https://www.we-online.com/catalog/datasheet/613026243121.pdf; Pitch: 2.54mm; Packaging: Tray; Gender: Socket Header; Rated Current: 3A; Row Number: Dual; Orientation: Angled; Supplier 1 URL: N/A; Supplier 2 URL: N/A; Supplier 3 URL: N/A; Mount: THT; Operating Temperature Max: + 85 C; Operating Temperature Min: - 25 C; Supplier 1: Mouser; Supplier 1 Part Number: N/A; Supplier 2: Digi-Key; Supplier 2 Part Number: N/A; Supplier 3: thegioiic; Supplier 3 Part Number: N/A; Value: 3A, 250 V (AC); LCSC Part #: N/A
footprint 613026243121
pins: 1, 2, 3, 4, 5, 6, 7, 8, 9, 10, 11, 12, 13, 14, 15, 16, 17, 18, 19, 20, 21, 22, 23, 24, 25, 26

## 613032143121
designator J?, comment 3A, 250 V (AC)
WR-PHD Socket Header, THT, pitch 2.54mm, Single Row, Angled, 32p; Manufacturer Part Number: 613032143121; Manufacturer: Wurth Elektronik; Pin Number: 32; Working Voltage: 250VAC; Withstanding Voltage: 500VAC; Contact Resistance: 20mOhm; ComponentLink1Description: Datasheet; ComponentLink1URL: https://www.we-online.com/catalog/datasheet/613032143121.pdf; Pitch: 2.54mm; Packaging: Tray; Gender: Socket Header; Rated Current: 3A; Row Number: Single; Orientation: Angled; Supplier 1 URL: https://www.mouser.vn/ProductDetail/Wurth-Elektronik/613032143121?qs=ZtY9WdtwX57Le9WYZVH80Q%3D%3D; Supplier 2 URL: N/A; Supplier 3 URL: N/A; Mount: THT; Operating Temperature Max: + 85 C; Operating Temperature Min: - 25 C; Supplier 1: Mouser; Supplier 1 Part Number: 710-613032143121; Supplier 2: Digi-Key; Supplier 2 Part Number: N/A; Supplier 3: thegioiic; Supplier 3 Part Number: N/A; Value: 3A, 250 V (AC); LCSC Part #: N/A
footprint 613032143121
pins: 1, 2, 3, 4, 5, 6, 7, 8, 9, 10, 11, 12, 13, 14, 15, 16, 17, 18, 19, 20, 21, 22, 23, 24, 25, 26, 27, 28, 29, 30, 31, 32

## 613032216921
designator J?, comment 3A, 250 V (AC)
WR-PHD Socket Header, THT, pitch 2.54mm, Dual Row, Vertical, 32p; Manufacturer Part Number: 613032216921; Manufacturer: Wurth Elektronik; Pin Number: 32; Working Voltage: 250VAC; Withstanding Voltage: 500VAC; Contact Resistance: 20mOhm; ComponentLink1Description: Datasheet; ComponentLink1URL: https://www.we-online.com/catalog/datasheet/613032216921.pdf; Pitch: 2.54mm; Packaging: Tube; Gender: Socket Header; Rated Current: 3A; Row Number: Dual; Orientation: Vertical; Supplier 1 URL: N/A; Supplier 2 URL: N/A; Supplier 3 URL: N/A; Mount: THT; Operating Temperature Max: + 85 C; Operating Temperature Min: - 25 C; Supplier 1: Mouser; Supplier 1 Part Number: N/A; Supplier 2: Digi-Key; Supplier 2 Part Number: N/A; Supplier 3: thegioiic; Supplier 3 Part Number: N/A; Value: 3A, 250 V (AC); LCSC Part #: N/A
footprint 613032216921
pins: 1, 2, 3, 4, 5, 6, 7, 8, 9, 10, 11, 12, 13, 14, 15, 16, 17, 18, 19, 20, 21, 22, 23, 24, 25, 26, 27, 28, 29, 30, 31, 32

## 613032243121
designator J?, comment 3A, 250 V (AC)
WR-PHD Socket Header, THT, pitch 2.54mm, Dual Row, Angled, 32p; Manufacturer Part Number: 613032243121; Manufacturer: Wurth Elektronik; Pin Number: 32; Working Voltage: 250VAC; Withstanding Voltage: 500VAC; Contact Resistance: 20mOhm; ComponentLink1Description: Datasheet; ComponentLink1URL: https://www.we-online.com/catalog/datasheet/613032243121.pdf; Pitch: 2.54mm; Packaging: Tray; Gender: Socket Header; Rated Current: 3A; Row Number: Dual; Orientation: Angled; Supplier 1 URL: N/A; Supplier 2 URL: N/A; Supplier 3 URL: N/A; Mount: THT; Operating Temperature Max: + 85 C; Operating Temperature Min: - 25 C; Supplier 1: Mouser; Supplier 1 Part Number: N/A; Supplier 2: Digi-Key; Supplier 2 Part Number: N/A; Supplier 3: thegioiic; Supplier 3 Part Number: N/A; Value: 3A, 250 V (AC); LCSC Part #: N/A
footprint 613032243121
pins: 1, 2, 3, 4, 5, 6, 7, 8, 9, 10, 11, 12, 13, 14, 15, 16, 17, 18, 19, 20, 21, 22, 23, 24, 25, 26, 27, 28, 29, 30, 31, 32

## 613034216921
designator J?, comment 3A, 250 V (AC)
WR-PHD Socket Header, THT, pitch 2.54mm, Dual Row, Vertical, 34p; Manufacturer Part Number: 613034216921; Manufacturer: Wurth Elektronik; Pin Number: 34; Working Voltage: 250VAC; Withstanding Voltage: 500VAC; Contact Resistance: 20mOhm; ComponentLink1Description: Datasheet; ComponentLink1URL: https://www.we-online.com/catalog/datasheet/613034216921.pdf; Pitch: 2.54mm; Packaging: Tube; Gender: Socket Header; Rated Current: 3A; Row Number: Dual; Orientation: Vertical; Supplier 1 URL: N/A; Supplier 2 URL: N/A; Supplier 3 URL: N/A; Mount: THT; Operating Temperature Max: + 85 C; Operating Temperature Min: - 25 C; Supplier 1: Mouser; Supplier 1 Part Number: N/A; Supplier 2: Digi-Key; Supplier 2 Part Number: N/A; Supplier 3: thegioiic; Supplier 3 Part Number: N/A; Value: 3A, 250 V (AC); LCSC Part #: N/A
footprint 613034216921
pins: 1, 2, 3, 4, 5, 6, 7, 8, 9, 10, 11, 12, 13, 14, 15, 16, 17, 18, 19, 20, 21, 22, 23, 24, 25, 26, 27, 28, 29, 30, 31, 32, 33, 34

## 613034243121
designator J?, comment 3A, 250 V (AC)
WR-PHD Socket Header, THT, pitch 2.54mm, Dual Row, Angled, 34p; Manufacturer Part Number: 613034243121; Manufacturer: Wurth Elektronik; Pin Number: 34; Working Voltage: 250VAC; Withstanding Voltage: 500VAC; Contact Resistance: 20mOhm; ComponentLink1Description: Datasheet; ComponentLink1URL: https://www.we-online.com/catalog/datasheet/613034243121.pdf; Pitch: 2.54mm; Packaging: Tray; Gender: Socket Header; Rated Current: 3A; Row Number: Dual; Orientation: Angled; Supplier 1 URL: N/A; Supplier 2 URL: N/A; Supplier 3 URL: N/A; Mount: THT; Operating Temperature Max: + 85 C; Operating Temperature Min: - 25 C; Supplier 1: Mouser; Supplier 1 Part Number: N/A; Supplier 2: Digi-Key; Supplier 2 Part Number: N/A; Supplier 3: thegioiic; Supplier 3 Part Number: N/A; Value: 3A, 250 V (AC); LCSC Part #: N/A
footprint 613034243121
pins: 1, 2, 3, 4, 5, 6, 7, 8, 9, 10, 11, 12, 13, 14, 15, 16, 17, 18, 19, 20, 21, 22, 23, 24, 25, 26, 27, 28, 29, 30, 31, 32, 33, 34

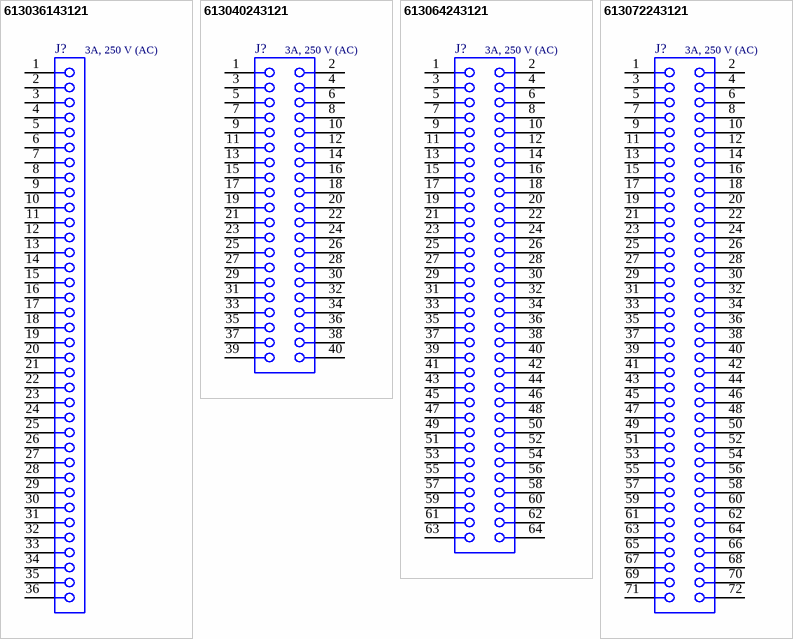
[diagram p5: symbols 613036143121 to 613072243121]

## 613036143121
designator J?, comment 3A, 250 V (AC)
WR-PHD Socket Header, THT, pitch 2.54mm, Single Row, Angled, 36p; Manufacturer Part Number: 613036143121; Manufacturer: Wurth Elektronik; Pin Number: 36; Working Voltage: 250VAC; Withstanding Voltage: 500VAC; Contact Resistance: 20mOhm; ComponentLink1Description: Datasheet; ComponentLink1URL: https://www.we-online.com/catalog/datasheet/613036143121.pdf; Pitch: 2.54mm; Packaging: Tray; Gender: Socket Header; Rated Current: 3A; Row Number: Single; Orientation: Angled; Supplier 1 URL: N/A; Supplier 2 URL: N/A; Supplier 3 URL: N/A; Mount: THT; Operating Temperature Max: + 85 C; Operating Temperature Min: - 25 C; Supplier 1: Mouser; Supplier 1 Part Number: N/A; Supplier 2: Digi-Key; Supplier 2 Part Number: N/A; Supplier 3: thegioiic; Supplier 3 Part Number: N/A; Value: 3A, 250 V (AC); LCSC Part #: N/A
footprint 613036143121
pins: 1, 2, 3, 4, 5, 6, 7, 8, 9, 10, 11, 12, 13, 14, 15, 16, 17, 18, 19, 20, 21, 22, 23, 24, 25, 26, 27, 28, 29, 30, 31, 32, 33, 34, 35, 36

## 613040243121
designator J?, comment 3A, 250 V (AC)
WR-PHD Socket Header, THT, pitch 2.54mm, Dual Row, Angled, 40p; Manufacturer Part Number: 613040243121; Manufacturer: Wurth Elektronik; Pin Number: 40; Working Voltage: 250VAC; Withstanding Voltage: 500VAC; Contact Resistance: 20mOhm; ComponentLink1Description: Datasheet; ComponentLink1URL: https://www.we-online.com/catalog/datasheet/613040243121.pdf; Pitch: 2.54mm; Packaging: Tray; Gender: Socket Header; Rated Current: 3A; Row Number: Dual; Orientation: Angled; Supplier 1 URL: N/A; Supplier 2 URL: N/A; Supplier 3 URL: https://www.thegioiic.com/hang-rao-cai-doi-2-54mm-40-chan-2-hang-chan-cong-xuyen-lo; Mount: THT; Operating Temperature Max: + 85 C; Operating Temperature Min: - 25 C; Supplier 1: Mouser; Supplier 1 Part Number: N/A; Supplier 2: Digi-Key; Supplier 2 Part Number: N/A; Supplier 3: thegioiic; Supplier 3 Part Number: N/A; Value: 3A, 250 V (AC); LCSC Part #: N/A
footprint 613040243121
pins: 1, 2, 3, 4, 5, 6, 7, 8, 9, 10, 11, 12, 13, 14, 15, 16, 17, 18, 19, 20, 21, 22, 23, 24, 25, 26, 27, 28, 29, 30, 31, 32, 33, 34, 35, 36, 37, 38, 39, 40

## 613064243121
designator J?, comment 3A, 250 V (AC)
WR-PHD Socket Header, THT, pitch 2.54mm, Dual Row, Angled, 64p; Manufacturer Part Number: 613064243121; Manufacturer: Wurth Elektronik; Pin Number: 64; Working Voltage: 250VAC; Withstanding Voltage: 500VAC; Contact Resistance: 20mOhm; ComponentLink1Description: Datasheet; ComponentLink1URL: https://www.we-online.com/catalog/datasheet/613064243121.pdf; Pitch: 2.54mm; Packaging: Tray; Gender: Socket Header; Rated Current: 3A; Row Number: Dual; Orientation: Angled; Supplier 1 URL: https://www.mouser.vn/ProductDetail/Wurth-Elektronik/613064243121?qs=ZtY9WdtwX55NNF%2FMLpceMA%3D%3D; Supplier 2 URL: N/A; Supplier 3 URL: N/A; Mount: THT; Operating Temperature Max: + 85 C; Operating Temperature Min: - 25 C; Supplier 1: Mouser; Supplier 1 Part Number: 710-613064243121; Supplier 2: Digi-Key; Supplier 2 Part Number: N/A; Supplier 3: thegioiic; Supplier 3 Part Number: N/A; Value: 3A, 250 V (AC); LCSC Part #: N/A
footprint 613064243121
pins: 1, 2, 3, 4, 5, 6, 7, 8, 9, 10, 11, 12, 13, 14, 15, 16, 17, 18, 19, 20, 21, 22, 23, 24, 25, 26, 27, 28, 29, 30, 31, 32, 33, 34, 35, 36, 37, 38, 39, 40, 41, 42, 43, 44, 45, 46, 47, 48, 49, 50, 51, 52, 53, 54, 55, 56, 57, 58, 59, 60, 61, 62, 63, 64

## 613072243121
designator J?, comment 3A, 250 V (AC)
WR-PHD Socket Header, THT, pitch 2.54mm, Dual Row, Angled, 72p; Manufacturer Part Number: 613072243121; Manufacturer: Wurth Elektronik; Pin Number: 72; Working Voltage: 250VAC; Withstanding Voltage: 500VAC; Contact Resistance: 20mOhm; ComponentLink1Description: Datasheet; ComponentLink1URL: https://www.we-online.com/catalog/datasheet/613072243121.pdf; Pitch: 2.54mm; Packaging: Tray; Gender: Socket Header; Rated Current: 3A; Row Number: Dual; Orientation: Angled; Supplier 1 URL: N/A; Supplier 2 URL: N/A; Supplier 3 URL: N/A; Mount: THT; Operating Temperature Max: + 85 C; Operating Temperature Min: - 25 C; Supplier 1: Mouser; Supplier 1 Part Number: N/A; Supplier 2: Digi-Key; Supplier 2 Part Number: N/A; Supplier 3: thegioiic; Supplier 3 Part Number: N/A; Value: 3A, 250 V (AC); LCSC Part #: N/A
footprint 613072243121
pins: 1, 2, 3, 4, 5, 6, 7, 8, 9, 10, 11, 12, 13, 14, 15, 16, 17, 18, 19, 20, 21, 22, 23, 24, 25, 26, 27, 28, 29, 30, 31, 32, 33, 34, 35, 36, 37, 38, 39, 40, 41, 42, 43, 44, 45, 46, 47, 48, 49, 50, 51, 52, 53, 54, 55, 56, 57, 58, 59, 60, 61, 62, 63, 64, 65, 66, 67, 68, 69, 70, 71, 72